# EAGLE library part MALE_HEADER_16X1 (library connectors)
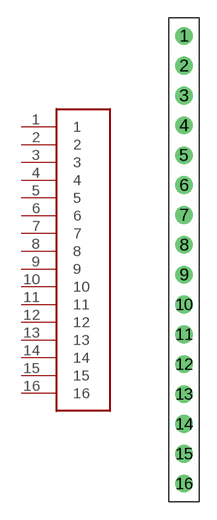
[diagram p18: symbol with the pads of 16X1_HEADER_THT; footprint 16X1_HEADER_THT]

Designator prefix J

## MALE_HEADER_16X1  [16X1_HEADER_THT]
1  1
2  2
3  3
4  4
5  5
6  6
7  7
8  8
9  9
10  10
11  11
12  12
13  13
14  14
15  15
16  16

## Footprint 16X1_HEADER_THT (pad centres in mm)
drill 1: 1 0,19.05; 2 0,16.51; 3 0,13.97; 4 0,11.43; 5 0,8.89; 6 0,6.35; 7 0,3.81; 8 0,1.27; 9 0,-1.27; 10 0,-3.81; 11 0,-6.35; 12 0,-8.89; 13 0,-11.43; 14 0,-13.97; 15 0,-16.51; 16 0,-19.05